# EAGLE library part XA-SMT-10PIN (library NFR23_v1.1)
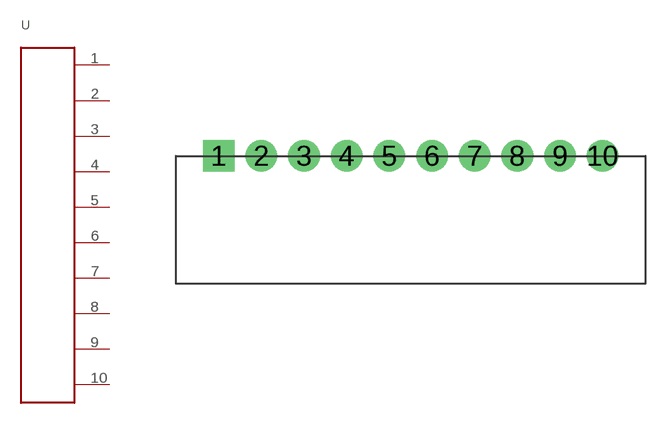
[diagram p12: symbol with the pads of XA-SMT-10PIN; footprint XA-SMT-10PIN]

Designator prefix -

## XA-SMT-10PIN  [XA-SMT-10PIN]
1  1  pas
2  2  pas
3  3  pas
4  4  pas
5  5  pas
6  6  pas
7  7  pas
8  P$1
9  P$2
10  P$3

## Footprint XA-SMT-10PIN (pad centres in mm)
drill 1.016 pad 1.88 square: 1 0,0
drill 1.016 pad 1.88: 2 2.54,0; 3 5.08,0; 4 7.62,0; 5 10.16,0; 6 12.7,0; 7 15.24,0; 8 17.78,0; 9 20.32,0; 10 22.86,0